# Altium footprint library PcbLib1.PcbLib: 1 footprints
Each footprint in its own frame and in the unit in brackets; x right, y up, seen from the top. Pads: shape width x height; smd on the part's side, far side on the other; paste and mask are expansions set on the pad; w line width, h text height; cw(c..) or ccw(c..) is an arc to the next point about the centre after c.
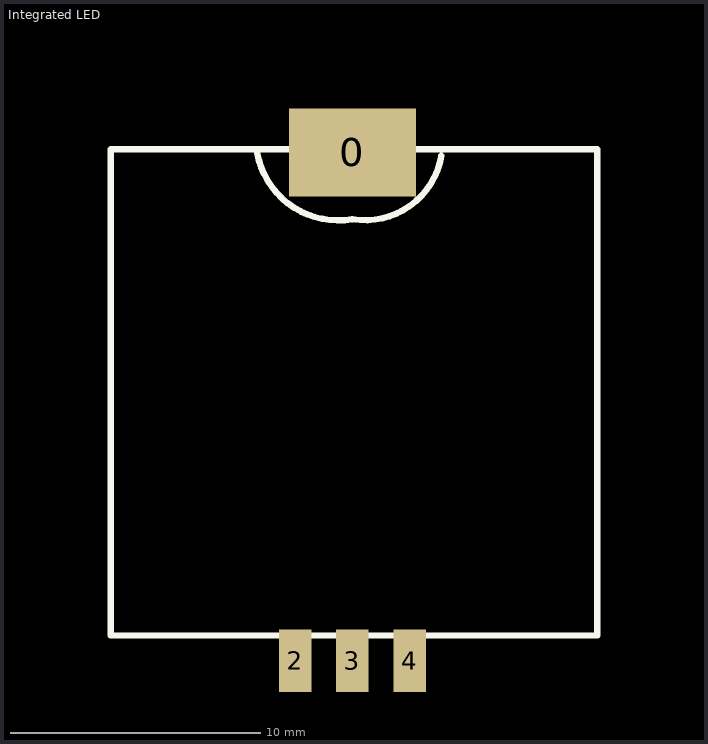
[diagram p0: the footprint, top view; thin cyan lines are the x and y axes]

## Integrated LED [mil] "Integrated LED"
pads (4):
  rect 200x138.74 smd: 0(-11045,-39180)
  rect 51.18x98.43 smd: 2(-11135,-39980) 3(-11045,-39980) 4(-10955,-39980)
Top Overlay:
  lines w10: -11195,-39180 ccw(c-11067.5,-39157.5) -11045,-39285 ccw(c-11025,-39165) -10905,-39185 ; -11425,-39940 -11425,-39175 -10660,-39175 -10660,-39940 -11425,-39940